# EAGLE library part PCA9306 (library vikc-ic)
The PCA9306 device is a dual bidirectional I2C and SMBus voltage-level translator with an enable (EN) input, and is operational from 1.2-V to 3.3-V VREF1 and 1.8-V to 5.5-V VREF2.
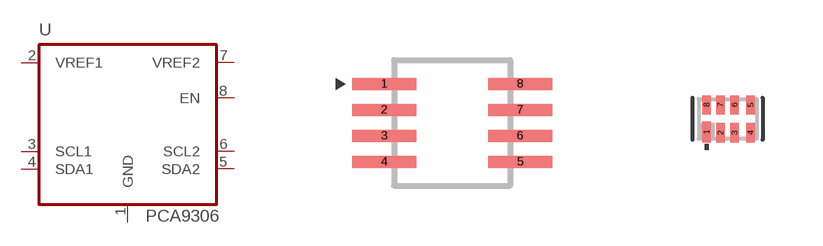
[diagram p16: symbol with the pads of SOP65P400X130-8N; footprints SOP65P400X130-8N, UDFN8]

Designator prefix U

## PCA9306  [SOP65P400X130-8N]
1  GND  pas
2  VREF1  pwr
3  SCL1
4  SDA1
5  SDA2
6  SCL2
7  VREF2  pwr
8  EN  in

## PCA9306FMUTCG  [UDFN8]
Pads as for SOP65P400X130-8N

## Footprint SOP65P400X130-8N (pad centres in mm)
smd 1.6 x 0.3: 1 -1.7,0.975; 2 -1.7,0.325; 3 -1.7,-0.325; 4 -1.7,-0.975; 5 1.7,-0.975; 6 1.7,-0.325; 7 1.7,0.325; 8 1.7,0.975

## Footprint UDFN8 (pad centres in mm)
uDFN 8
smd 0.22 x 0.53: 1 -0.525,-0.325
smd 0.22 x 0.48: 2 -0.175,-0.35; 3 0.175,-0.35; 4 0.575,-0.35; 5 0.575,0.35; 6 0.175,0.35; 7 -0.175,0.35; 8 -0.525,0.35